# EAGLE library part SN74AHC273N (library EELE_465)
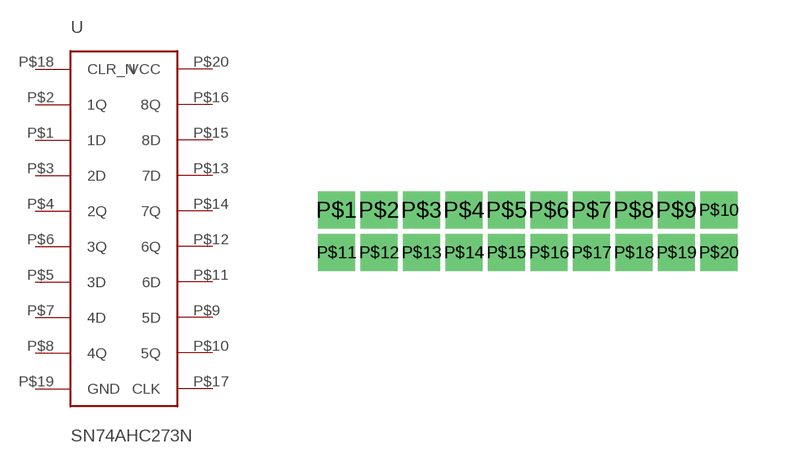
[diagram p6: symbol with the pads of SN74AHC273N; footprint SN74AHC273N]

Designator prefix -

## SN74AHC273N  [SN74AHC273N]
P$1  1D
P$2  1Q
P$3  2D
P$4  2Q
P$5  3D
P$6  3Q
P$7  4D
P$8  4Q
P$9  5D
P$10  5Q
P$11  6D
P$12  6Q
P$13  7D
P$14  7Q
P$15  8D
P$16  8Q
P$17  CLK
P$18  CLR_N
P$19  GND
P$20  VCC

## Footprint SN74AHC273N (pad centres in mm)
drill 0.6 square: P$1 0,0; P$2 1.27,0; P$3 2.54,0; P$4 3.81,0; P$5 5.08,0; P$6 6.35,0; P$7 7.62,0; P$8 8.89,0; P$9 10.16,0; P$10 11.43,0; P$11 0,-1.27; P$12 1.27,-1.27; P$13 2.54,-1.27; P$14 3.81,-1.27; P$15 5.08,-1.27; P$16 6.35,-1.27; P$17 7.62,-1.27; P$18 8.89,-1.27; P$19 10.16,-1.27; P$20 11.43,-1.27